# Altium footprint library 可调电感.PcbLib: 1 footprints
Each footprint in its own frame and in the unit in brackets; x right, y up, seen from the top. Pads: shape width x height; smd on the part's side, far side on the other; paste and mask are expansions set on the pad; w line width, h text height; cw(c..) or ccw(c..) is an arc to the next point about the centre after c.
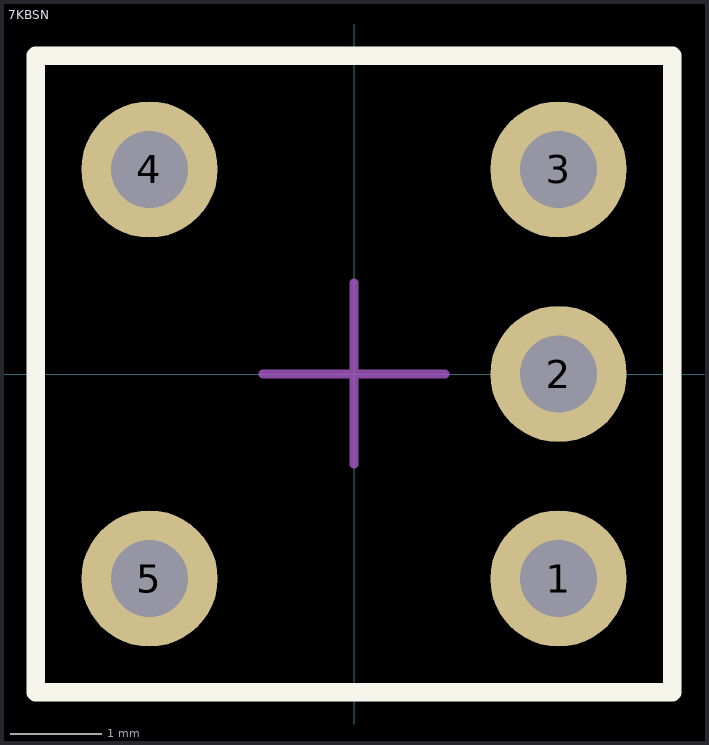
[diagram p0: the footprint, top view; thin cyan lines are the x and y axes]

## 7KBSN [mm] "镙纹可调电感"
height 7
pads (5):
  round 1.5 hole 0.85 unplated: 1(2.25,-2.25) 2(2.25,0) 3(2.25,2.25) 4(-2.25,2.25) 5(-2.25,-2.25)
Top Overlay:
  lines w0.2: -3.5,-3.5 3.5,-3.5 ; -3.5,-3.5 3.5,-3.5 ; -3.5,-3.5 -3.5,3.5 3.5,3.5 3.5,-3.5
Mechanical 13:
  lines w0.05: -3.5,-3.5 3.5,-3.5 3.5,3.5 -3.5,3.5 -3.5,-3.5
Mechanical 15:
  lines w0.1: -1,0 1,0 ; 0,-0.991 0,1
3D body: height 8, standoff -2.5, extent -3.5,-3.5 3.5,3.5